# Altium schematic symbol library GOST.SchLib: 26 symbols
Pins are listed as number, name and electrical type; pins without a type are passive.

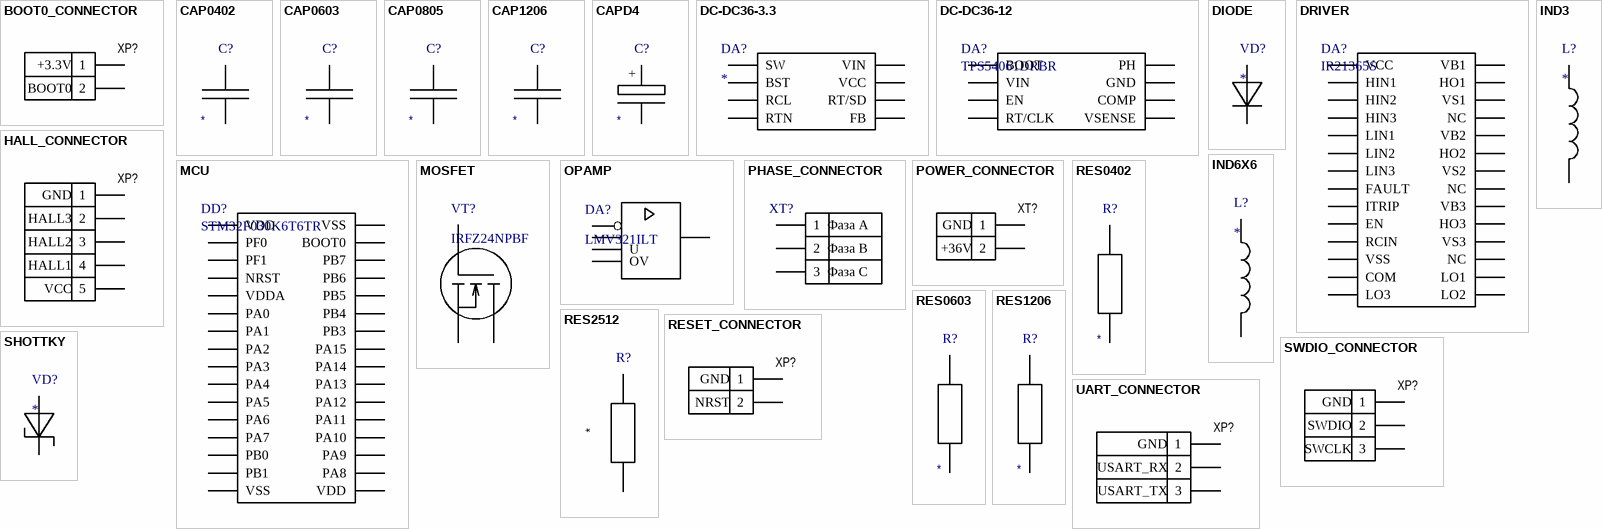
[diagram p0: symbols BOOT0_CONNECTOR to UART_CONNECTOR]

## BOOT0_CONNECTOR
designator XP?  (value not drawn)
footprint PLC-2
pins: 1 BOOT0  2, 2 +3.3V  1

## CAP0402
designator С?
Capacitance: *
footprint CAP0402 (Chip Capacitor, 2-Leads, Body 1,00x0,50mm, IPC High Density)
pins: 1, 2

## CAP0603
designator С?
Capacitance: *
footprint CAP0603 (Chip Capacitor, 2-Leads, Body 1,60x0,80mm, IPC High Density)
pins: 1, 2

## CAP0805
designator С?
Capacitance: *
footprint CAP0805 (Chip Capacitor, 2-Leads, Body 2,10x1,30mm, IPC High Density)
pins: 1, 2

## CAP1206
designator С?
Capacitance: *
footprint CAP1206
pins: 1, 2

## CAPD4
designator С?
Capacitance: *
footprint CAPD4 (Aluminum Electrolytic Capacitor, Body 4,30x4,30x6,10mm, IPC High Density)
pins: +, -

## DC-DC36-3.3
designator DA?
LM5008MM/NOPB
footprint VSSOP8 (TSOP, 8-Leads, Body 3,00x3,00mm, Pitch 0,65mm, IPC High Density)
pins: 1 SW, 2 BST, 3 RCL, 4 RTN, 5 FB, 6 RT/SD, 7 VCC, 8 VIN

## DC-DC36-12
designator DA?, comment TPS54061DRBR
footprint VSON8 (SON, 8-Leads, Body 3,00x3,00mm, Pitch 0,65mm, Thermal Pad 2,40x1,65mm, IPC High Density)
pins: 1 BOOT, 2 VIN, 3 EN, 4 RT/CLK, 5 VSENSE, 6 COMP, 7 GND, 8 PH, 9 THERMAL hidden to GND

## DIODE
designator VD?
footprint SOD323
pins: 1, 2

## DRIVER
designator DA?, comment IR21365S
footprint SOIC28 (SOIC, 28-Leads, Body 17,90x7,50mm, Pitch 1,27mm, IPC High Density)
pins: 1 VCC, 2 HIN1, 3 HIN2, 4 HIN3, 5 LIN1, 6 LIN2, 7 LIN3, 8 FAULT, 9 ITRIP, 10 EN, 11 RCIN, 12 VSS, 13 COM, 14 LO3, 15 LO2, 16 LO1, 17 NC, 18 VS3, 19 HO3, 20 VB3, 21 NC, 22 VS2, 23 HO2, 24 VB2, 25 NC, 26 VS1, 27 HO1, 28 VB1

## HALL_CONNECTOR
designator XP?  (value not drawn)
footprint PLC-5
pins: 1 VCC  5, 2 HALL1  4, 3 HALL2  3, 4 HALL3  2, 5 GND  1

## IND3
designator L?
footprint IND3
pins: 1, 2

## IND6X6
designator L?
footprint IND6X6
pins: 1, 2

## MCU
designator DD?, comment STM32F030K6T6TR
footprint LQFP32 (TQFP, 32-Leads, Body 7,00x7,00mm, Pitch 0,80mm, IPC High Density)
pins: 1 VDD, 2 PF0, 3 PF1, 4 NRST, 5 VDDA, 6 PA0, 7 PA1, 8 PA2, 9 PA3, 10 PA4, 11 PA5, 12 PA6, 13 PA7, 14 PB0, 15 PB1, 16 VSS, 17 VDD, 18 PA8, 19 PA9, 20 PA10, 21 PA11, 22 PA12, 23 PA13, 24 PA14, 25 PA15, 26 PB3, 27 PB4, 28 PB5, 29 PB6, 30 PB7, 31 BOOT0, 32 VSS

## MOSFET
designator VT?, comment IRFZ24NPBF
footprint TO-220
pins: D, G, S

## OPAMP
designator DA?, comment LMV321ILT
footprint SOT23-5 (SOT23, 5-Leads, Body 2,90x2,80mm, Pitch 0,95mm, IPC High Density)
pins: 1, 2 U (power), 3, 4, 5 OV (power)

## PHASE_CONNECTOR
designator XT?  (value not drawn)
footprint 350-3
pins: 1 1  Фаза А, 2 2  Фаза B, 3 3  Фаза C

## POWER_CONNECTOR
designator XT?  (value not drawn)
footprint 350-2
pins: 1 +36V  2, 2 GND  1

## RES0402
designator R?
Resistance: *
footprint RES0402
pins: 1, 2

## RES0603
designator R?
Resistance: *
footprint RES0603
pins: 1, 2

## RES1206
designator R?
Resistance: *
footprint RES1206
pins: 1, 2

## RES2512
designator R?
Resistance: *
footprint RES2512
pins: 1, 2

## RESET_CONNECTOR
designator XP?  (value not drawn)
footprint PLC-2
pins: 1 NRST  2, 2 GND  1

## SHOTTKY
designator VD?
footprint SOD123F (SODFL, 2-Leads, Body 1,60x3,50mm, IPC High Density)
pins: +, -

## SWDIO_CONNECTOR
designator XP?  (value not drawn)
footprint PLC-3
pins: 1 SWCLK  3, 2 SWDIO  2, 3 GND  1

## UART_CONNECTOR
designator XP?  (value not drawn)
footprint PLC-3
pins: 1 USART_TX  3, 2 USART_RX  2, 3 GND  1